# EAGLE library part PROGRAMMER_P_AVR (library HWProgUSB)
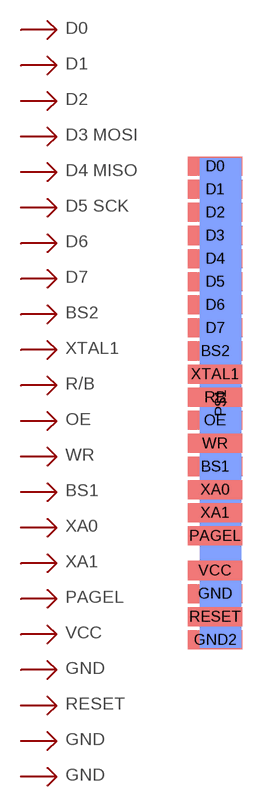
[diagram p2: symbol with the pads of PROGRAMMER_P_AVR; footprint PROGRAMMER_P_AVR]

Designator prefix -

## PROGRAMMER_P_AVR_P  [PROGRAMMER_P_AVR]
BS1  BS1
BS2  BS2
D0  D0
D1  D1
D2  D2
D3  D3
D4  D4
D5  D5
D6  D6
D7  D7
GND  GND
GND2  GND2
OE  OE
P$1  LGND
PAGEL  PAGEL
RB  RB
RESET  RESET
VCC  VCC
WR  WR
XA0  XA0
XA1  XA1
XTAL1  XTAL1

## Footprint PROGRAMMER_P_AVR (pad centres in mm)
smd 6 x 2.1: BS1 0,-34.925; BS2 0,-22.225; D0 0,-1.905; D1 0,-4.445; D2 0,-6.985; D3 0,-9.525; D4 0,-12.065; D5 0,-14.605; D6 0,-17.145; D7 0,-19.685; GND 0,-48.895; GND2 0,-53.975; OE 0,-29.845; PAGEL 0,-42.545; RB 0,-27.305; RESET 0,-51.435; VCC 0,-46.355; WR 0,-32.385; XA0 0,-37.465; XA1 0,-40.005; XTAL1 0,-24.765
smd 4.572 x 53.848 bottom: P$1 0.635,-27.94